# EAGLE library part 2706-106/000-009 (library con-wago_2706)
Serie 2706, Klemmenleisten mit Betätigungshebeln 2 Lötstifte/Pol / Series 2706, Terminal strips with operating levers 2 solder pins/pole Polzahl / Pole No.: 6 Bemessungsspannung / Rated Voltage: 630 V Nennstrom / Nominal Current: 41 A Leiterquerschnitt / Conductor Size: 0.5 - 6 mm² Anschlusstechnik / Connection Technology: CAGE CLAMP® Lötstiftlänge: / Solder Pin Length: 4.5 mm Leitereinführung (zur Platine) / Conductor entry angle (to PCB): 30 ° Farbe / Color: lichtgrau / light gray Stand: 01.01.2012. Die jeweils aktuellen Daten zu diesem Artikel finden Sie in unserem Produktkatalog, den Sie unter www.wago.com einsehen können. As of: 01/01/2012. Please find the newest data for this article in our product catalogue, which can be viewed under www.wago.com.
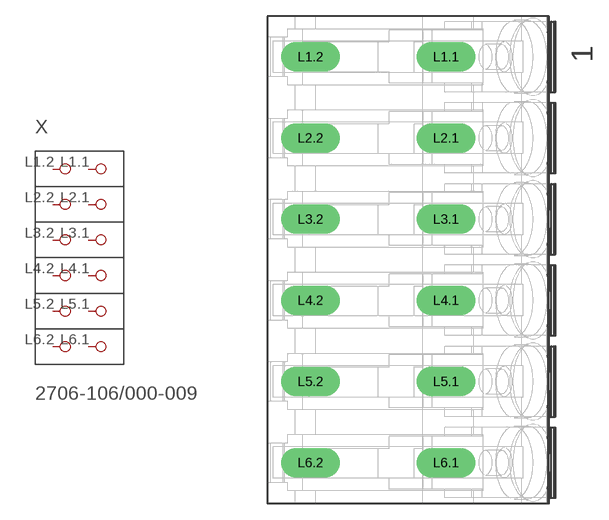
[diagram p23: symbol with the pads of P-2706-106; footprint P-2706-106]

Designator prefix X

## 2706-106/000-009  [P-2706-106]
L1.1  P1.1
L1.2  P1.2
L2.1  P2.1
L2.2  P2.2
L3.1  P3.1
L3.2  P3.2
L4.1  P4.1
L4.2  P4.2
L5.1  P5.1
L5.2  P5.2
L6.1  P6.1
L6.2  P6.2

## Footprint P-2706-106 (pad centres in mm)
drill 1.8 long: L1.1 3.185,18.75; L1.2 -9.315,18.75; L2.1 3.185,11.25; L2.2 -9.315,11.25; L3.1 3.185,3.75; L3.2 -9.315,3.75; L4.1 3.185,-3.75; L4.2 -9.315,-3.75; L5.1 3.185,-11.25; L5.2 -9.315,-11.25; L6.1 3.185,-18.75; L6.2 -9.315,-18.75